# Altium footprint library TI Amplifiers and Linear Operational Amplifier Precision Amplifier Part One.PcbLib: 89 footprints (part 4 of 6)
Each footprint in its own frame and in the unit in brackets; x right, y up, seen from the top. Pads: shape width x height; smd on the part's side, far side on the other; paste and mask are expansions set on the pad; w line width, h text height; cw(c..) or ccw(c..) is an arc to the next point about the centre after c.
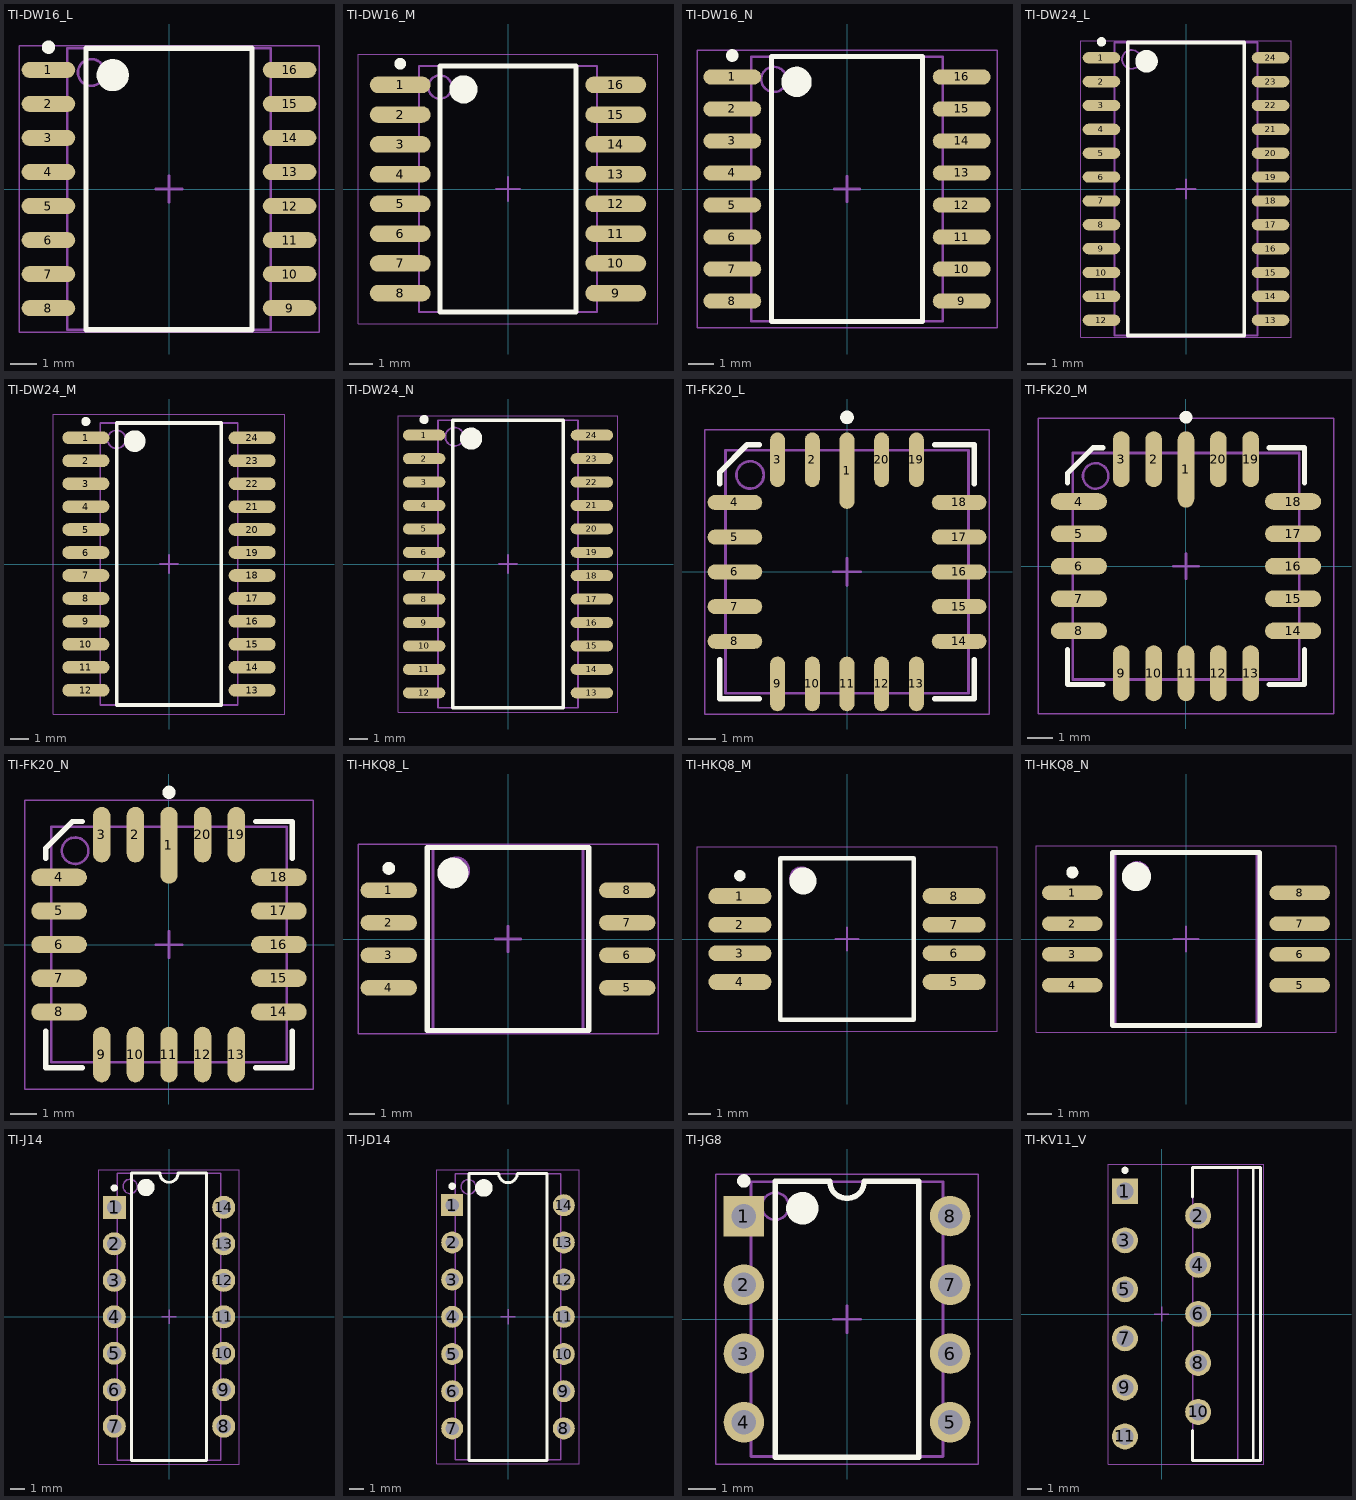
[diagram p3: the footprints below, top view; thin cyan lines are the x and y axes]

## TI-DW16_L [mm] "SOIC, 16-Leads, Body 10.3x7.5mm, Pitch 1.27mm, IPC High Density"
height 2.65
pads (16):
  oval 2x0.6 smd: 1(-4.5,4.445) 2(-4.5,3.175) 3(-4.5,1.905) 4(-4.5,0.635) 5(-4.5,-0.635) 6(-4.5,-1.905) 7(-4.5,-3.175) 8(-4.5,-4.445) 9(4.5,-4.445) 10(4.5,-3.175) 11(4.5,-1.905) 12(4.5,-0.635) 13(4.5,0.635) 14(4.5,1.905) 15(4.5,3.175) 16(4.5,4.445)
Top Overlay:
  circle w0.6: c-2.1,4.25 r0.3
  circle w0.25: c-4.5,5.295 r0.125
  lines w0.2: -3.1,-5.25 3.1,-5.25 3.1,5.25 -3.1,5.25 -3.1,-5.25
Mechanical 13:
  circle w0.1: c-2.9,4.35 r0.5
  lines w0.1: -3.8,-5.25 3.8,-5.25 3.8,5.25 -3.8,5.25 -3.8,-5.25
Mechanical 15:
  lines w0.05: -5.6,-5.35 5.6,-5.35 5.6,5.35 -5.6,5.35 -5.6,-5.35
  lines w0.1: -0.5,0 0.5,0 ; 0,-0.5 0,0.5
3D body: height 2.65, standoff 0.1, extent -3.8,-5.25 3.8,5.25

## TI-DW16_M [mm] "SOIC, 16-Leads, Body 10.3x7.5mm, Pitch 1.27mm, IPC Low Density"
height 2.65
pads (16):
  oval 2.6x0.7 smd: 1(-4.6,4.445) 2(-4.6,3.175) 3(-4.6,1.905) 4(-4.6,0.635) 5(-4.6,-0.635) 6(-4.6,-1.905) 7(-4.6,-3.175) 8(-4.6,-4.445) 9(4.6,-4.445) 10(4.6,-3.175) 11(4.6,-1.905) 12(4.6,-0.635) 13(4.6,0.635) 14(4.6,1.905) 15(4.6,3.175) 16(4.6,4.445)
Top Overlay:
  circle w0.25: c-4.6,5.345 r0.125
  circle w0.6: c-1.9,4.25 r0.3
  lines w0.2: -2.9,-5.25 -2.9,5.25 2.9,5.25 2.9,-5.25 -2.9,-5.25
Mechanical 13:
  circle w0.1: c-2.9,4.35 r0.5
  lines w0.1: -3.8,-5.25 -3.8,5.25 3.8,5.25 3.8,-5.25 -3.8,-5.25
Mechanical 15:
  lines w0.05: -6.4,-5.75 -6.4,5.75 6.4,5.75 6.4,-5.75 -6.4,-5.75
  lines w0.1: -0.5,0 0.5,0 ; 0,-0.5 0,0.5
3D body: height 2.65, standoff 0.1, extent -3.8,-5.25 3.8,5.25

## TI-DW16_N [mm] "SOIC, 16-Leads, Body 10.3x7.5mm, Pitch 1.27mm, IPC Medium Density"
height 2.65
pads (16):
  oval 2.3x0.6 smd: 1(-4.55,4.445) 2(-4.55,3.175) 3(-4.55,1.905) 4(-4.55,0.635) 5(-4.55,-0.635) 6(-4.55,-1.905) 7(-4.55,-3.175) 8(-4.55,-4.445) 9(4.55,-4.445) 10(4.55,-3.175) 11(4.55,-1.905) 12(4.55,-0.635) 13(4.55,0.635) 14(4.55,1.905) 15(4.55,3.175) 16(4.55,4.445)
Top Overlay:
  circle w0.25: c-4.55,5.295 r0.125
  circle w0.6: c-2,4.25 r0.3
  lines w0.2: -3,-5.25 -3,5.25 3,5.25 3,-5.25 -3,-5.25
Mechanical 13:
  circle w0.1: c-2.9,4.35 r0.5
  lines w0.1: -3.8,-5.25 -3.8,5.25 3.8,5.25 3.8,-5.25 -3.8,-5.25
Mechanical 15:
  lines w0.05: -5.95,-5.5 -5.95,5.5 5.95,5.5 5.95,-5.5 -5.95,-5.5
  lines w0.1: -0.5,0 0.5,0 ; 0,-0.5 0,0.5
3D body: height 2.65, standoff 0.1, extent -3.8,-5.25 3.8,5.25

## TI-DW24_L [mm] "SOIC, 24-Leads, Body 15.4x7.5mm, Pitch 1.27mm, IPC High Density"
height 2.65
pads (24):
  oval 2x0.6 smd: 1(-4.5,6.985) 2(-4.5,5.715) 3(-4.5,4.445) 4(-4.5,3.175) 5(-4.5,1.905) 6(-4.5,0.635) 7(-4.5,-0.635) 8(-4.5,-1.905) 9(-4.5,-3.175) 10(-4.5,-4.445) 11(-4.5,-5.715) 12(-4.5,-6.985) 13(4.5,-6.985) 14(4.5,-5.715) 15(4.5,-4.445) 16(4.5,-3.175) 17(4.5,-1.905) 18(4.5,-0.635) 19(4.5,0.635) 20(4.5,1.905) 21(4.5,3.175) 22(4.5,4.445) 23(4.5,5.715) 24(4.5,6.985)
Top Overlay:
  circle w0.25: c-4.5,7.835 r0.125
  circle w0.6: c-2.1,6.8 r0.3
  lines w0.2: -3.1,-7.8 -3.1,7.8 3.1,7.8 3.1,-7.8 -3.1,-7.8
Mechanical 13:
  circle w0.1: c-2.9,6.9 r0.5
  lines w0.1: -3.8,-7.8 -3.8,7.8 3.8,7.8 3.8,-7.8 -3.8,-7.8
Mechanical 15:
  lines w0.05: -5.6,-7.9 -5.6,7.9 5.6,7.9 5.6,-7.9 -5.6,-7.9
  lines w0.1: -0.5,0 0.5,0 ; 0,-0.5 0,0.5
3D body: height 2.65, standoff 0.1, extent -3.8,-7.8 3.8,7.8

## TI-DW24_M [mm] "SOIC, 24-Leads, Body 15.4x7.5mm, Pitch 1.27mm, IPC Low Density"
height 2.65
pads (24):
  oval 2.6x0.7 smd: 1(-4.6,6.985) 2(-4.6,5.715) 3(-4.6,4.445) 4(-4.6,3.175) 5(-4.6,1.905) 6(-4.6,0.635) 7(-4.6,-0.635) 8(-4.6,-1.905) 9(-4.6,-3.175) 10(-4.6,-4.445) 11(-4.6,-5.715) 12(-4.6,-6.985) 13(4.6,-6.985) 14(4.6,-5.715) 15(4.6,-4.445) 16(4.6,-3.175) 17(4.6,-1.905) 18(4.6,-0.635) 19(4.6,0.635) 20(4.6,1.905) 21(4.6,3.175) 22(4.6,4.445) 23(4.6,5.715) 24(4.6,6.985)
Top Overlay:
  circle w0.25: c-4.6,7.885 r0.125
  circle w0.6: c-1.9,6.8 r0.3
  lines w0.2: -2.9,-7.8 -2.9,7.8 2.9,7.8 2.9,-7.8 -2.9,-7.8
Mechanical 13:
  circle w0.1: c-2.9,6.9 r0.5
  lines w0.1: -3.8,-7.8 -3.8,7.8 3.8,7.8 3.8,-7.8 -3.8,-7.8
Mechanical 15:
  lines w0.05: -6.4,-8.3 -6.4,8.3 6.4,8.3 6.4,-8.3 -6.4,-8.3
  lines w0.1: -0.5,0 0.5,0 ; 0,-0.5 0,0.5
3D body: height 2.65, standoff 0.1, extent -3.8,-7.8 3.8,7.8

## TI-DW24_N [mm] "SOIC, 24-Leads, Body 15.4x7.5mm, Pitch 1.27mm, IPC Medium Density"
height 2.65
pads (24):
  oval 2.3x0.6 smd: 1(-4.55,6.985) 2(-4.55,5.715) 3(-4.55,4.445) 4(-4.55,3.175) 5(-4.55,1.905) 6(-4.55,0.635) 7(-4.55,-0.635) 8(-4.55,-1.905) 9(-4.55,-3.175) 10(-4.55,-4.445) 11(-4.55,-5.715) 12(-4.55,-6.985) 13(4.55,-6.985) 14(4.55,-5.715) 15(4.55,-4.445) 16(4.55,-3.175) 17(4.55,-1.905) 18(4.55,-0.635) 19(4.55,0.635) 20(4.55,1.905) 21(4.55,3.175) 22(4.55,4.445) 23(4.55,5.715) 24(4.55,6.985)
Top Overlay:
  circle w0.25: c-4.55,7.835 r0.125
  circle w0.6: c-2,6.8 r0.3
  lines w0.2: -3,-7.8 -3,7.8 3,7.8 3,-7.8 -3,-7.8
Mechanical 13:
  circle w0.1: c-2.9,6.9 r0.5
  lines w0.1: -3.8,-7.8 -3.8,7.8 3.8,7.8 3.8,-7.8 -3.8,-7.8
Mechanical 15:
  lines w0.05: -5.95,-8.05 -5.95,8.05 5.95,8.05 5.95,-8.05 -5.95,-8.05
  lines w0.1: -0.5,0 0.5,0 ; 0,-0.5 0,0.5
3D body: height 2.65, standoff 0.1, extent -3.8,-7.8 3.8,7.8

## TI-FK20_L [mm] "Leadless Chip Carrier, 20-Leads, Body 8.9x8.9mm, Pitch 1.27mm, IPC High Density"
height 2.03
pads (20):
  oval 0.55x2.8 smd: 1(0,3.7)
  oval 0.55x2 smd: 2(-1.27,4.1) 3(-2.54,4.1) 9(-2.54,-4.1) 10(-1.27,-4.1) 11(0,-4.1) 12(1.27,-4.1) 13(2.54,-4.1) 19(2.54,4.1) 20(1.27,4.1)
  oval 2x0.55 smd: 4(-4.1,2.54) 5(-4.1,1.27) 6(-4.1,0) 7(-4.1,-1.27) 8(-4.1,-2.54) 14(4.1,-2.54) 15(4.1,-1.27) 16(4.1,0) 17(4.1,1.27) 18(4.1,2.54)
Top Overlay:
  circle w0.25: c0,5.65 r0.125
  lines w0.2: -4.65,-3.215 -4.65,-4.65 -3.215,-4.65 ; -4.65,3.215 -4.65,3.65 -3.65,4.65 -3.215,4.65 ; 3.215,-4.65 4.65,-4.65 4.65,-3.215 ; 3.215,4.65 4.65,4.65 4.65,3.215
Mechanical 13:
  circle w0.1: c-3.545,3.545 r0.5
  lines w0.1: -4.445,-4.445 -4.445,4.445 4.445,4.445 4.445,-4.445 -4.445,-4.445
Mechanical 15:
  lines w0.05: -5.2,-5.2 -5.2,5.2 5.2,5.2 5.2,-5.2 -5.2,-5.2
  lines w0.1: -0.5,0 0.5,0 ; 0,-0.5 0,0.5
3D body: height 2.03, standoff 0, extent -4.445,-4.445 4.445,4.445

## TI-FK20_M [mm] "Leadless Chip Carrier, 20-Leads, Body 8.9x8.9mm, Pitch 1.27mm, IPC Low Density"
height 2.03
pads (20):
  oval 0.65x3 smd: 1(0,3.8)
  oval 0.65x2.2 smd: 2(-1.27,4.2) 3(-2.54,4.2) 9(-2.54,-4.2) 10(-1.27,-4.2) 11(0,-4.2) 12(1.27,-4.2) 13(2.54,-4.2) 19(2.54,4.2) 20(1.27,4.2)
  oval 2.2x0.65 smd: 4(-4.2,2.54) 5(-4.2,1.27) 6(-4.2,0) 7(-4.2,-1.27) 8(-4.2,-2.54) 14(4.2,-2.54) 15(4.2,-1.27) 16(4.2,0) 17(4.2,1.27) 18(4.2,2.54)
Top Overlay:
  circle w0.25: c0,5.85 r0.125
  lines w0.2: -4.65,-3.265 -4.65,-4.65 -3.265,-4.65 ; -4.65,3.265 -4.65,3.65 -3.65,4.65 -3.265,4.65 ; 3.265,-4.65 4.65,-4.65 4.65,-3.265 ; 3.265,4.65 4.65,4.65 4.65,3.265
Mechanical 13:
  circle w0.1: c-3.545,3.545 r0.5
  lines w0.1: -4.445,-4.445 -4.445,4.445 4.445,4.445 4.445,-4.445 -4.445,-4.445
Mechanical 15:
  lines w0.05: -5.8,-5.8 -5.8,5.8 5.8,5.8 5.8,-5.8 -5.8,-5.8
  lines w0.1: -0.5,0 0.5,0 ; 0,-0.5 0,0.5
3D body: height 2.03, standoff 0, extent -4.445,-4.445 4.445,4.445

## TI-FK20_N [mm] "Leadless Chip Carrier, 20-Leads, Body 8.9x8.9mm, Pitch 1.27mm, IPC Medium Density"
height 2.03
pads (20):
  oval 0.65x2.9 smd: 1(0,3.75)
  oval 0.65x2.1 smd: 2(-1.27,4.15) 3(-2.54,4.15) 9(-2.54,-4.15) 10(-1.27,-4.15) 11(0,-4.15) 12(1.27,-4.15) 13(2.54,-4.15) 19(2.54,4.15) 20(1.27,4.15)
  oval 2.1x0.65 smd: 4(-4.15,2.54) 5(-4.15,1.27) 6(-4.15,0) 7(-4.15,-1.27) 8(-4.15,-2.54) 14(4.15,-2.54) 15(4.15,-1.27) 16(4.15,0) 17(4.15,1.27) 18(4.15,2.54)
Top Overlay:
  circle w0.25: c0,5.75 r0.125
  lines w0.2: -4.65,-3.265 -4.65,-4.65 -3.265,-4.65 ; -4.65,3.265 -4.65,3.65 -3.65,4.65 -3.265,4.65 ; 3.265,-4.65 4.65,-4.65 4.65,-3.265 ; 3.265,4.65 4.65,4.65 4.65,3.265
Mechanical 13:
  circle w0.1: c-3.545,3.545 r0.5
  lines w0.1: -4.445,-4.445 -4.445,4.445 4.445,4.445 4.445,-4.445 -4.445,-4.445
Mechanical 15:
  lines w0.05: -5.45,-5.45 -5.45,5.45 5.45,5.45 5.45,-5.45 -5.45,-5.45
  lines w0.1: -0.5,0 0.5,0 ; 0,-0.5 0,0.5
3D body: height 2.03, standoff 0, extent -4.445,-4.445 4.445,4.445

## TI-HKQ8_L [mm] "CFP, 8-Leads, Body 6.9x5.65mm, Pitch 1.27mm, IPC High Density"
height 2.8
pads (8):
  oval 2.2x0.6 smd: 1(-4.65,1.905) 2(-4.65,0.635) 3(-4.65,-0.635) 4(-4.65,-1.905) 5(4.65,-1.905) 6(4.65,-0.635) 7(4.65,0.635) 8(4.65,1.905)
Top Overlay:
  circle w0.6: c-2.15,2.575 r0.3
  circle w0.25: c-4.65,2.755 r0.125
  lines w0.2: -3.15,-3.575 -3.15,3.575 3.15,3.575 3.15,-3.575 -3.15,-3.575
Mechanical 13:
  circle w0.1: c-2.025,2.675 r0.5
  lines w0.1: -2.925,-3.575 -2.925,3.575 2.925,3.575 2.925,-3.575 -2.925,-3.575
Mechanical 15:
  lines w0.05: -5.85,-3.7 -5.85,3.7 5.85,3.7 5.85,-3.7 -5.85,-3.7
  lines w0.1: -0.5,0 0.5,0 ; 0,-0.5 0,0.5
3D body: height 2.8, standoff 0.15, extent -2.925,-3.575 2.925,3.575

## TI-HKQ8_M [mm] "CFP, 8-Leads, Body 6.9x5.65mm, Pitch 1.27mm, IPC Low Density"
height 2.8
pads (8):
  oval 2.8x0.7 smd: 1(-4.75,1.905) 2(-4.75,0.635) 3(-4.75,-0.635) 4(-4.75,-1.905) 5(4.75,-1.905) 6(4.75,-0.635) 7(4.75,0.635) 8(4.75,1.905)
Top Overlay:
  circle w0.6: c-1.95,2.575 r0.3
  circle w0.25: c-4.75,2.805 r0.125
  lines w0.2: -2.95,-3.575 -2.95,3.575 2.95,3.575 2.95,-3.575 -2.95,-3.575
Mechanical 13:
  circle w0.1: c-2.025,2.675 r0.5
  lines w0.1: -2.925,-3.575 -2.925,3.575 2.925,3.575 2.925,-3.575 -2.925,-3.575
Mechanical 15:
  lines w0.05: -6.65,-4.1 -6.65,4.1 6.65,4.1 6.65,-4.1 -6.65,-4.1
  lines w0.1: -0.5,0 0.5,0 ; 0,-0.5 0,0.5
3D body: height 2.8, standoff 0.15, extent -2.925,-3.575 2.925,3.575

## TI-HKQ8_N [mm] "CFP, 8-Leads, Body 6.9x5.65mm, Pitch 1.27mm, IPC Medium Density"
height 2.8
pads (8):
  oval 2.5x0.6 smd: 1(-4.7,1.905) 2(-4.7,0.635) 3(-4.7,-0.635) 4(-4.7,-1.905) 5(4.7,-1.905) 6(4.7,-0.635) 7(4.7,0.635) 8(4.7,1.905)
Top Overlay:
  circle w0.6: c-2.05,2.575 r0.3
  circle w0.25: c-4.7,2.755 r0.125
  lines w0.2: -3.05,-3.575 -3.05,3.575 3.05,3.575 3.05,-3.575 -3.05,-3.575
Mechanical 13:
  circle w0.1: c-2.025,2.675 r0.5
  lines w0.1: -2.925,-3.575 -2.925,3.575 2.925,3.575 2.925,-3.575 -2.925,-3.575
Mechanical 15:
  lines w0.05: -6.2,-3.85 -6.2,3.85 6.2,3.85 6.2,-3.85 -6.2,-3.85
  lines w0.1: -0.5,0 0.5,0 ; 0,-0.5 0,0.5
3D body: height 2.8, standoff 0.15, extent -2.925,-3.575 2.925,3.575

## TI-J14 [mm] "DIP, 14-Leads, Body 19.94x6.92mm, Row Spacing 7.62 mm, Pitch 2.54mm"
height 5.08
pads (14):
  rect 1.6x1.6 hole 1: 1(-3.81,7.62)
  round 1.6 hole 1: 2(-3.81,5.08) 3(-3.81,2.54) 4(-3.81,0) 5(-3.81,-2.54) 6(-3.81,-5.08) 7(-3.81,-7.62) 8(3.81,-7.62) 9(3.81,-5.08) 10(3.81,-2.54) 11(3.81,0) 12(3.81,2.54) 13(3.81,5.08) 14(3.81,7.62)
Top Overlay:
  circle w0.25: c-3.81,8.97 r0.125
  circle w0.6: c-1.6,9 r0.3
  lines w0.2: -2.6,-10 -2.6,10 -0.635,10 ccw(c0,10) 0.635,10 2.6,10 2.6,-10 -2.6,-10
Mechanical 13:
  circle w0.1: c-2.7,9.075 r0.5
  lines w0.1: -3.6,-9.975 -3.6,9.975 3.6,9.975 3.6,-9.975 -3.6,-9.975
Mechanical 15:
  lines w0.05: -4.9,-10.25 -4.9,10.25 4.9,10.25 4.9,-10.25 -4.9,-10.25
  lines w0.1: -0.5,0 0.5,0 ; 0,-0.5 0,0.5
3D body: height 2.58, standoff 0, extent -3.96,7.07 -3.66,8.17
3D body: height 2.88, standoff 2.58, extent -3.96,7.07 -3.6,8.17
3D body: height 0, standoff -1.6, extent -3.96,7.22 -3.66,8.02
3D body: height 2.58, standoff 0, extent -3.96,4.53 -3.66,5.63
3D body: height 2.88, standoff 2.58, extent -3.96,4.53 -3.6,5.63
3D body: height 0, standoff -1.6, extent -3.96,4.68 -3.66,5.48
3D body: height 2.58, standoff 0, extent -3.96,1.99 -3.66,3.09
3D body: height 2.88, standoff 2.58, extent -3.96,1.99 -3.6,3.09
3D body: height 0, standoff -1.6, extent -3.96,2.14 -3.66,2.94
3D body: height 2.58, standoff 0, extent -3.96,-0.55 -3.66,0.55
3D body: height 2.88, standoff 2.58, extent -3.96,-0.55 -3.6,0.55
3D body: height 0, standoff -1.6, extent -3.96,-0.4 -3.66,0.4
3D body: height 2.58, standoff 0, extent -3.96,-3.09 -3.66,-1.99
3D body: height 2.88, standoff 2.58, extent -3.96,-3.09 -3.6,-1.99
3D body: height 0, standoff -1.6, extent -3.96,-2.94 -3.66,-2.14
3D body: height 2.58, standoff 0, extent -3.96,-5.63 -3.66,-4.53
3D body: height 2.88, standoff 2.58, extent -3.96,-5.63 -3.6,-4.53
3D body: height 0, standoff -1.6, extent -3.96,-5.48 -3.66,-4.68
3D body: height 2.58, standoff 0, extent -3.96,-8.17 -3.66,-7.07
3D body: height 2.88, standoff 2.58, extent -3.96,-8.17 -3.6,-7.07
3D body: height 0, standoff -1.6, extent -3.96,-8.02 -3.66,-7.22
3D body: height 2.58, standoff 0, extent 3.66,-8.17 3.96,-7.07
3D body: height 2.88, standoff 2.58, extent 3.6,-8.17 3.96,-7.07
3D body: height 0, standoff -1.6, extent 3.66,-8.02 3.96,-7.22
3D body: height 2.58, standoff 0, extent 3.66,-5.63 3.96,-4.53
3D body: height 2.88, standoff 2.58, extent 3.6,-5.63 3.96,-4.53
3D body: height 0, standoff -1.6, extent 3.66,-5.48 3.96,-4.68
3D body: height 2.58, standoff 0, extent 3.66,-3.09 3.96,-1.99
3D body: height 2.88, standoff 2.58, extent 3.6,-3.09 3.96,-1.99
3D body: height 0, standoff -1.6, extent 3.66,-2.94 3.96,-2.14
3D body: height 2.58, standoff 0, extent 3.66,-0.55 3.96,0.55
3D body: height 2.88, standoff 2.58, extent 3.6,-0.55 3.96,0.55
3D body: height 0, standoff -1.6, extent 3.66,-0.4 3.96,0.4
3D body: height 2.58, standoff 0, extent 3.66,1.99 3.96,3.09
3D body: height 2.88, standoff 2.58, extent 3.6,1.99 3.96,3.09
3D body: height 0, standoff -1.6, extent 3.66,2.14 3.96,2.94
3D body: height 2.58, standoff 0, extent 3.66,4.53 3.96,5.63
3D body: height 2.88, standoff 2.58, extent 3.6,4.53 3.96,5.63
3D body: height 0, standoff -1.6, extent 3.66,4.68 3.96,5.48
3D body: height 2.58, standoff 0, extent 3.66,7.07 3.96,8.17
3D body: height 2.88, standoff 2.58, extent 3.6,7.07 3.96,8.17
3D body: height 0, standoff -1.6, extent 3.66,7.22 3.96,8.02
3D body: height 5.08, standoff 0.38, extent -3.6,-9.975 3.6,9.975

## TI-JD14 [mm] "DIP, 14-Leads, Body 18.545x7.49mm, Pitch 2.54mm, TI Recommended"
height 4.45
pads (14):
  rect 1.5x1.5 hole 0.9: 1(-3.81,7.62)
  round 1.5 hole 0.9: 2(-3.81,5.08) 3(-3.81,2.54) 4(-3.81,0) 5(-3.81,-2.54) 6(-3.81,-5.08) 7(-3.81,-7.62) 8(3.81,-7.62) 9(3.81,-5.08) 10(3.81,-2.54) 11(3.81,0) 12(3.81,2.54) 13(3.81,5.08) 14(3.81,7.62)
Top Overlay:
  circle w0.6: c-1.65,8.8 r0.3
  circle w0.25: c-3.81,8.92 r0.125
  lines w0.2: -2.65,-9.8 2.65,-9.8 2.65,9.8 0.635,9.8 cw(c0,9.8) -0.635,9.8 -2.65,9.8 -2.65,-9.8
Mechanical 13:
  circle w0.1: c-2.7,8.875 r0.5
  lines w0.1: -3.6,-9.775 3.6,-9.775 3.6,9.775 -3.6,9.775 -3.6,-9.775
Mechanical 15:
  lines w0.05: -4.85,-10.05 4.85,-10.05 4.85,10.05 -4.85,10.05 -4.85,-10.05
  lines w0.1: -0.5,0 0.5,0 ; 0,-0.5 0,0.5
3D body: height 4.45, standoff 0.64, extent -3.6,-9.775 3.6,9.775
3D body: height 0, standoff -1.6, extent 3.675,7.26 3.945,7.98
3D body: height 2.68, standoff 2.41, extent 3.6,7.12 3.945,8.12
3D body: height 2.41, standoff 0, extent 3.675,7.12 3.945,8.12
3D body: height 0, standoff -1.6, extent 3.675,4.72 3.945,5.44
3D body: height 2.68, standoff 2.41, extent 3.6,4.58 3.945,5.58
3D body: height 2.41, standoff 0, extent 3.675,4.58 3.945,5.58
3D body: height 0, standoff -1.6, extent 3.675,2.18 3.945,2.9
3D body: height 2.68, standoff 2.41, extent 3.6,2.04 3.945,3.04
3D body: height 2.41, standoff 0, extent 3.675,2.04 3.945,3.04
3D body: height 0, standoff -1.6, extent 3.675,-0.36 3.945,0.36
3D body: height 2.68, standoff 2.41, extent 3.6,-0.5 3.945,0.5
3D body: height 2.41, standoff 0, extent 3.675,-0.5 3.945,0.5
3D body: height 0, standoff -1.6, extent 3.675,-2.9 3.945,-2.18
3D body: height 2.68, standoff 2.41, extent 3.6,-3.04 3.945,-2.04
3D body: height 2.41, standoff 0, extent 3.675,-3.04 3.945,-2.04
3D body: height 0, standoff -1.6, extent 3.675,-5.44 3.945,-4.72
3D body: height 2.68, standoff 2.41, extent 3.6,-5.58 3.945,-4.58
3D body: height 2.41, standoff 0, extent 3.675,-5.58 3.945,-4.58
3D body: height 0, standoff -1.6, extent 3.675,-7.98 3.945,-7.26
3D body: height 2.68, standoff 2.41, extent 3.6,-8.12 3.945,-7.12
3D body: height 2.41, standoff 0, extent 3.675,-8.12 3.945,-7.12
3D body: height 0, standoff -1.6, extent -3.945,-7.98 -3.675,-7.26
3D body: height 2.68, standoff 2.41, extent -3.945,-8.12 -3.6,-7.12
3D body: height 2.41, standoff 0, extent -3.945,-8.12 -3.675,-7.12
3D body: height 0, standoff -1.6, extent -3.945,-5.44 -3.675,-4.72
3D body: height 2.68, standoff 2.41, extent -3.945,-5.58 -3.6,-4.58
3D body: height 2.41, standoff 0, extent -3.945,-5.58 -3.675,-4.58
3D body: height 0, standoff -1.6, extent -3.945,-2.9 -3.675,-2.18
3D body: height 2.68, standoff 2.41, extent -3.945,-3.04 -3.6,-2.04
3D body: height 2.41, standoff 0, extent -3.945,-3.04 -3.675,-2.04
3D body: height 0, standoff -1.6, extent -3.945,-0.36 -3.675,0.36
3D body: height 2.68, standoff 2.41, extent -3.945,-0.5 -3.6,0.5
3D body: height 2.41, standoff 0, extent -3.945,-0.5 -3.675,0.5
3D body: height 0, standoff -1.6, extent -3.945,2.18 -3.675,2.9
3D body: height 2.68, standoff 2.41, extent -3.945,2.04 -3.6,3.04
3D body: height 2.41, standoff 0, extent -3.945,2.04 -3.675,3.04
3D body: height 0, standoff -1.6, extent -3.945,4.72 -3.675,5.44
3D body: height 2.68, standoff 2.41, extent -3.945,4.58 -3.6,5.58
3D body: height 2.41, standoff 0, extent -3.945,4.58 -3.675,5.58
3D body: height 0, standoff -1.6, extent -3.945,7.26 -3.675,7.98
3D body: height 2.68, standoff 2.41, extent -3.945,7.12 -3.6,8.12
3D body: height 2.41, standoff 0, extent -3.945,7.12 -3.675,8.12

## TI-JG8 [mm] "DIP, 8-Leads, Body 10.15x7.1mm, Pitch 2.54mm"
height 5.08
pads (8):
  rect 1.5x1.5 hole 0.9: 1(-3.81,3.81)
  round 1.5 hole 0.9: 2(-3.81,1.27) 3(-3.81,-1.27) 4(-3.81,-3.81) 5(3.81,-3.81) 6(3.81,-1.27) 7(3.81,1.27) 8(3.81,3.81)
Top Overlay:
  circle w0.25: c-3.81,5.11 r0.125
  circle w0.6: c-1.65,4.1 r0.3
  lines w0.2: -2.65,-5.1 -2.65,5.1 -0.635,5.1 ccw(c0,5.1) 0.635,5.1 2.65,5.1 2.65,-5.1 -2.65,-5.1
Mechanical 13:
  circle w0.1: c-2.65,4.175 r0.5
  lines w0.1: -3.55,-5.075 -3.55,5.075 3.55,5.075 3.55,-5.075 -3.55,-5.075
Mechanical 15:
  lines w0.05: -4.85,-5.35 -4.85,5.35 4.85,5.35 4.85,-5.35 -4.85,-5.35
  lines w0.1: -0.5,0 0.5,0 ; 0,-0.5 0,0.5
3D body: height 2.66, standoff 0, extent -3.945,3.31 -3.675,4.31
3D body: height 2.93, standoff 2.66, extent -3.945,3.31 -3.55,4.31
3D body: height 0, standoff -1.6, extent -3.945,3.45 -3.675,4.17
3D body: height 2.66, standoff 0, extent -3.945,0.77 -3.675,1.77
3D body: height 2.93, standoff 2.66, extent -3.945,0.77 -3.55,1.77
3D body: height 0, standoff -1.6, extent -3.945,0.91 -3.675,1.63
3D body: height 2.66, standoff 0, extent -3.945,-1.77 -3.675,-0.77
3D body: height 2.93, standoff 2.66, extent -3.945,-1.77 -3.55,-0.77
3D body: height 0, standoff -1.6, extent -3.945,-1.63 -3.675,-0.91
3D body: height 2.66, standoff 0, extent -3.945,-4.31 -3.675,-3.31
3D body: height 2.93, standoff 2.66, extent -3.945,-4.31 -3.55,-3.31
3D body: height 0, standoff -1.6, extent -3.945,-4.17 -3.675,-3.45
3D body: height 2.66, standoff 0, extent 3.675,-4.31 3.945,-3.31
3D body: height 2.93, standoff 2.66, extent 3.55,-4.31 3.945,-3.31
3D body: height 0, standoff -1.6, extent 3.675,-4.17 3.945,-3.45
3D body: height 2.66, standoff 0, extent 3.675,-1.77 3.945,-0.77
3D body: height 2.93, standoff 2.66, extent 3.55,-1.77 3.945,-0.77
3D body: height 0, standoff -1.6, extent 3.675,-1.63 3.945,-0.91
3D body: height 2.66, standoff 0, extent 3.675,0.77 3.945,1.77
3D body: height 2.93, standoff 2.66, extent 3.55,0.77 3.945,1.77
3D body: height 0, standoff -1.6, extent 3.675,0.91 3.945,1.63
3D body: height 2.66, standoff 0, extent 3.675,3.31 3.945,4.31
3D body: height 2.93, standoff 2.66, extent 3.55,3.31 3.945,4.31
3D body: height 0, standoff -1.6, extent 3.675,3.45 3.945,4.17
3D body: height 5.08, standoff 0.51, extent -3.55,-5.075 3.55,5.075

## TI-KV11_V [mm] "FM, 11-Leads, Body 20.015x4.495mm, Pitch 1.7mm"
height 20.82
pads (11):
  rect 1.8x1.8 hole 1.2: 1(-2.54,8.51)
  round 1.8 hole 1.2: 2(2.54,6.81) 3(-2.54,5.11) 4(2.54,3.41) 5(-2.54,1.71) 6(2.54,0.01) 7(-2.54,-1.69) 8(2.54,-3.39) 9(-2.54,-5.09) 10(2.54,-6.79) 11(-2.54,-8.49)
Top Overlay:
  circle w0.25: c-2.54,9.96 r0.125
  lines w0.2: 2.155,-8.09 2.155,-10.15 6.855,-10.15 6.855,10.15 2.155,10.15 2.155,8.11 ; 6.355,-10.15 6.355,10.15
Mechanical 13:
  lines w0.1: 5.28,-10.15 5.28,10.15 ; 2.18,-10.15 2.18,10.15 6.83,10.15 6.83,-10.15 2.18,-10.15
Mechanical 15:
  lines w0.05: -3.69,-10.4 -3.69,10.4 7.08,10.4 7.08,-10.4 -3.69,-10.4
  lines w0.1: -0.5,0 0.5,0 ; 0,-0.5 0,0.5
3D body: height 1.1, standoff 0, extent -2.785,7.86 -2.295,9.16
3D body: height 1.59, standoff 1.1, extent -2.785,7.86 4.75,9.16
3D body: height 2.69, standoff 1.59, extent 4.26,7.86 4.75,9.16
3D body: height 0, standoff -1.6, extent -2.785,8.025 -2.295,8.995
3D body: height 1.1, standoff 0, extent 2.295,6.16 2.785,7.46
3D body: height 1.59, standoff 1.1, extent 2.295,6.16 4.75,7.46
3D body: height 2.69, standoff 1.59, extent 4.26,6.16 4.75,7.46
3D body: height 0, standoff -1.6, extent 2.295,6.325 2.785,7.295
3D body: height 1.1, standoff 0, extent -2.785,4.46 -2.295,5.76
3D body: height 1.59, standoff 1.1, extent -2.785,4.46 4.75,5.76
3D body: height 2.69, standoff 1.59, extent 4.26,4.46 4.75,5.76
3D body: height 0, standoff -1.6, extent -2.785,4.625 -2.295,5.595
3D body: height 1.1, standoff 0, extent 2.295,2.76 2.785,4.06
3D body: height 1.59, standoff 1.1, extent 2.295,2.76 4.75,4.06
3D body: height 2.69, standoff 1.59, extent 4.26,2.76 4.75,4.06
3D body: height 0, standoff -1.6, extent 2.295,2.925 2.785,3.895
3D body: height 1.1, standoff 0, extent -2.785,1.06 -2.295,2.36
3D body: height 1.59, standoff 1.1, extent -2.785,1.06 4.75,2.36
3D body: height 2.69, standoff 1.59, extent 4.26,1.06 4.75,2.36
3D body: height 0, standoff -1.6, extent -2.785,1.225 -2.295,2.195
3D body: height 1.1, standoff 0, extent 2.295,-0.64 2.785,0.66
3D body: height 1.59, standoff 1.1, extent 2.295,-0.64 4.75,0.66
3D body: height 2.69, standoff 1.59, extent 4.26,-0.64 4.75,0.66
3D body: height 0, standoff -1.6, extent 2.295,-0.475 2.785,0.495
3D body: height 1.1, standoff 0, extent -2.785,-2.34 -2.295,-1.04
3D body: height 1.59, standoff 1.1, extent -2.785,-2.34 4.75,-1.04
3D body: height 2.69, standoff 1.59, extent 4.26,-2.34 4.75,-1.04
3D body: height 0, standoff -1.6, extent -2.785,-2.175 -2.295,-1.205
3D body: height 1.1, standoff 0, extent 2.295,-4.04 2.785,-2.74
3D body: height 1.59, standoff 1.1, extent 2.295,-4.04 4.75,-2.74
3D body: height 2.69, standoff 1.59, extent 4.26,-4.04 4.75,-2.74
3D body: height 0, standoff -1.6, extent 2.295,-3.875 2.785,-2.905
3D body: height 1.1, standoff 0, extent -2.785,-5.74 -2.295,-4.44
3D body: height 1.59, standoff 1.1, extent -2.785,-5.74 4.75,-4.44
3D body: height 2.69, standoff 1.59, extent 4.26,-5.74 4.75,-4.44
3D body: height 0, standoff -1.6, extent -2.785,-5.575 -2.295,-4.605
3D body: height 1.1, standoff 0, extent 2.295,-7.44 2.785,-6.14
3D body: height 1.59, standoff 1.1, extent 2.295,-7.44 4.75,-6.14
3D body: height 2.69, standoff 1.59, extent 4.26,-7.44 4.75,-6.14
3D body: height 0, standoff -1.6, extent 2.295,-7.275 2.785,-6.305
3D body: height 1.1, standoff 0, extent -2.785,-9.14 -2.295,-7.84
3D body: height 1.59, standoff 1.1, extent -2.785,-9.14 4.75,-7.84
3D body: height 2.69, standoff 1.59, extent 4.26,-9.14 4.75,-7.84
3D body: height 0, standoff -1.6, extent -2.785,-8.975 -2.295,-8.005
3D body: height 14.47, standoff 2.69, extent 2.18,-10.15 6.83,10.15
3D body: height 16.12, standoff 14.47, extent 5.28,-10 6.83,10
3D body: height 16.16, standoff 16.12, extent 5.28,0.371 6.83,10
3D body: height 16.16, standoff 16.12, extent 5.28,-10 6.83,-0.371
3D body: height 19.92, standoff 19.88, extent 5.28,0.371 6.83,10
3D body: height 19.92, standoff 19.88, extent 5.28,-10 6.83,-0.371
3D body: height 16.27, standoff 16.16, extent 5.28,0.727 6.83,10
3D body: height 16.27, standoff 16.16, extent 5.28,-10 6.83,-0.727
3D body: height 19.89, standoff 19.78, extent 5.28,0.727 6.83,10
3D body: height 19.89, standoff 19.78, extent 5.28,-10 6.83,-0.727
3D body: height 16.45, standoff 16.26, extent 5.28,1.056 6.83,10
3D body: height 16.45, standoff 16.26, extent 5.28,-10 6.83,-1.056
3D body: height 19.78, standoff 19.6, extent 5.28,1.056 6.83,10
3D body: height 19.78, standoff 19.6, extent 5.28,-10 6.83,-1.056
3D body: height 16.68, standoff 16.44, extent 5.28,1.344 6.83,10
3D body: height 16.68, standoff 16.44, extent 5.28,-10 6.83,-1.344
3D body: height 19.6, standoff 19.36, extent 5.28,1.344 6.83,10
3D body: height 19.6, standoff 19.36, extent 5.28,-10 6.83,-1.344
3D body: height 16.97, standoff 16.68, extent 5.28,1.58 6.83,10
3D body: height 16.97, standoff 16.68, extent 5.28,-10 6.83,-1.58
3D body: height 19.37, standoff 19.08, extent 5.28,1.58 6.83,10
3D body: height 19.37, standoff 19.08, extent 5.28,-10 6.83,-1.58
3D body: height 17.3, standoff 16.96, extent 5.28,1.755 6.83,10
3D body: height 17.3, standoff 16.96, extent 5.28,-10 6.83,-1.755
3D body: height 19.08, standoff 18.75, extent 5.28,1.755 6.83,10
3D body: height 19.08, standoff 18.75, extent 5.28,-10 6.83,-1.755
3D body: height 17.65, standoff 17.29, extent 5.28,1.863 6.83,10
3D body: height 17.65, standoff 17.29, extent 5.28,-10 6.83,-1.863
3D body: height 18.75, standoff 18.39, extent 5.28,1.863 6.83,10
3D body: height 18.75, standoff 18.39, extent 5.28,-10 6.83,-1.863
3D body: height 18.02, standoff 17.65, extent 5.28,1.9 6.83,10
3D body: height 18.02, standoff 17.65, extent 5.28,-10 6.83,-1.9
3D body: height 18.4, standoff 18.02, extent 5.28,1.9 6.83,10
3D body: height 18.4, standoff 18.02, extent 5.28,-10 6.83,-1.9
3D body: height 20.82, standoff 19.92, extent 5.28,-10 6.83,10